# Altium schematic symbol library Fu的原理图库.SchLib: 44 symbols
Pins are listed as number, name and electrical type; pins without a type are passive.

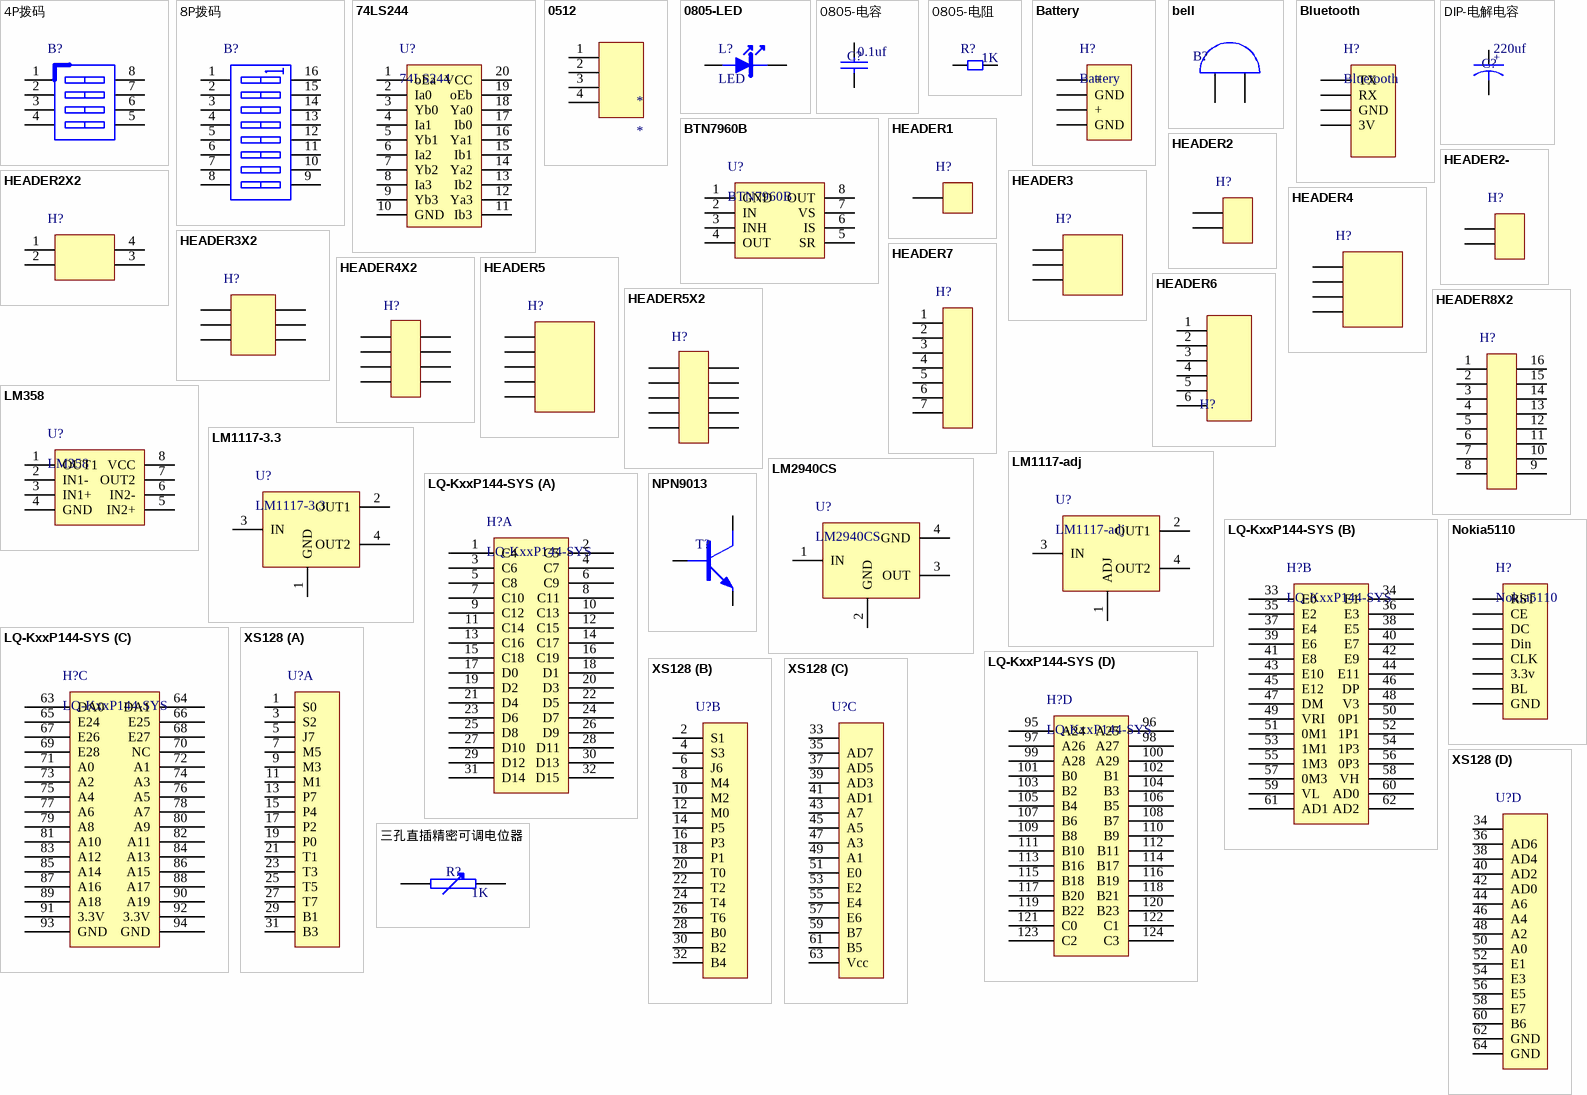
[diagram p0: symbols 4P拨码 to 三孔直插精密可调电位器]

## 4P拨码
designator B?  (value not drawn)
footprint 4P拨码
pins: 1, 2, 3, 4, 5, 6, 7, 8

## 8P拨码
designator B?  (value not drawn)
DIP
footprint 8P拨码
pins: 1 A1, 2 A2, 3 A3, 4 A4, 5 A5, 6 A6, 7 A7, 8 A8, 9 B8, 10 B7, 11 B6, 12 B5, 13 B4, 14 B3, 15 B2, 16 B1

## 74LS244
designator U?
footprint SN74LS244
pins: 1 oEa, 2 Ia0, 3 Yb0, 4 Ia1, 5 Yb1, 6 Ia2, 7 Yb2, 8 Ia3, 9 Yb3, 10 GND, 11 Ib3, 12 Ya3, 13 Ib2, 14 Ya2, 15 Ib1, 16 Ya1, 17 Ib0, 18 Ya0, 19 oEb, 20 VCC

## 0512
designator *
pins: 1, 2 HL, 3 HM, 4 HR

## 0805-LED
designator L?, comment LED
footprint 二极管0805
pins: 1, 2

## 0805-电容
designator C?, comment value 0.1uf  (hidden comment: CAP)
footprint 0805
pins: 1, 2

## 0805-电阻
designator R?, comment value 1K  (hidden comment: RES)
footprint 0805
pins: 1, 2

## Battery
designator H?
footprint Battery
pins: 1 +, 2 GND, 3 +, 4 GND

## bell
designator B?, comment BELL  (value not drawn)
直插蜂鸣器
footprint bell
pins: 1, 2

## Bluetooth
designator H?
footprint Bluetooth
pins: 1 TX, 2 RX, 3 GND, 4 3V

## BTN7960B
designator U?
footprint BTN7960B
pins: 1 GND, 2 IN, 3 INH, 4 OUT, 5 SR, 6 IS, 7 VS, 8 OUT

## DIP-电解电容
designator C?, comment value 220uf  (hidden comment: PCAP)
大容量，耐压值16V
footprint 电解电容器
footprint 钽电容
pins: 1, 2
text: +

## HEADER1
designator H?  (value not drawn)
footprint HEADER1
pins: 1

## HEADER2
designator H?  (value not drawn)
footprint HEADER2
pins: 1, 2

## HEADER2-
designator H?  (value not drawn)
footprint HEADER2-
pins: 1, 2

## HEADER2X2
designator H?  (value not drawn)
footprint HEADER2X2
pins: 1, 2, 3, 4

## HEADER3
designator H?, comment HEADER  (value not drawn)
footprint 干簧管
pins: 1, 2, 3

## HEADER3X2
designator H?  (value not drawn)
HEADER3X2
footprint HEADER3X2
pins: 1, 2, 3, 4, 5, 6

## HEADER4
designator H?, comment HEADER  (value not drawn)
footprint HEADER4
pins: 1, 2, 3, 4

## HEADER4X2
designator H?  (value not drawn)
footprint HEADER4X2
pins: 1, 2, 3, 4, 5, 6, 7, 8

## HEADER5
designator H?, comment HEADER  (value not drawn)
CCD接口
footprint HEADER5
pins: 1, 2, 3, 4, 5

## HEADER5X2
designator H?  (value not drawn)
footprint HEADER5X2
pins: 1, 2, 3, 4, 5, 6, 7, 8, 9, 10

## HEADER6
designator H?  (value not drawn)
电感接口，蓝牙最全接口
footprint HEADER6
pins: 1, 2 HL, 3 HM, 4 HR, 5 VL, 6 VR

## HEADER7
designator H?  (value not drawn)
footprint HEADER7 (OLED插槽)
pins: 1, 2, 3, 4, 5, 6, 7

## HEADER8X2
designator H?  (value not drawn)
footprint HEADER8X2
pins: 1, 2, 3, 4, 5, 6, 7, 8, 9, 10, 11, 12, 13, 14, 15, 16

## LM358
designator U?
footprint LM358
pins: 1 OUT1, 2 IN1-, 3 IN1+, 4 GND, 5 IN2+, 6 IN2-, 7 OUT2, 8 VCC

## LM1117-3.3
designator U?
SOT223
footprint LM1117 (SOT223)
pins: 1 GND, 2 OUT1, 3 IN, 4 OUT2

## LM1117-adj
designator U?
SOT-223
footprint LM1117 (SOT223)
pins: 1 ADJ, 2 OUT1, 3 IN, 4 OUT2

## LM2940CS
designator U?
TO-263
footprint LM2940CS
pins: 1 IN, 2 GND, 3 OUT, 4 GND

## LQ-KxxP144-SYS
designator H?
header15x2; 厂家: 龙丘
footprint LQ-KxxP144-SYS
part A pins: 1 C4, 2 C5, 3 C6, 4 C7, 5 C8, 6 C9, 7 C10, 8 C11, 9 C12, 10 C13, 11 C14, 12 C15, 13 C16, 14 C17, 15 C18, 16 C19, 17 D0, 18 D1, 19 D2, 20 D3, 21 D4, 22 D5, 23 D6, 24 D7, 25 D8, 26 D9, 27 D10, 28 D11, 29 D12, 30 D13, 31 D14, 32 D15
part B pins: 33 E0, 34 E1, 35 E2, 36 E3, 37 E4, 38 E5, 39 E6, 40 E7, 41 E8, 42 E9, 43 E10, 44 E11, 45 E12, 46 DP, 47 DM, 48 V3, 49 VRI, 50 0P1, 51 0M1, 52 1P1, 53 1M1, 54 1P3, 55 1M3, 56 0P3, 57 0M3, 58 VH, 59 VL, 60 AD0, 61 AD1, 62 AD2
part C pins: 63 DA0, 64 DA1, 65 E24, 66 E25, 67 E26, 68 E27, 69 E28, 70 NC, 71 A0, 72 A1, 73 A2, 74 A3, 75 A4, 76 A5, 77 A6, 78 A7, 79 A8, 80 A9, 81 A10, 82 A11, 83 A12, 84 A13, 85 A14, 86 A15, 87 A16, 88 A17, 89 A18, 90 A19, 91 3.3V, 92 3.3V, 93 GND, 94 GND
part D pins: 95 A24, 96 A25, 97 A26, 98 A27, 99 A28, 100 A29, 101 B0, 102 B1, 103 B2, 104 B3, 105 B4, 106 B5, 107 B6, 108 B7, 109 B8, 110 B9, 111 B10, 112 B11, 113 B16, 114 B17, 115 B18, 116 B19, 117 B20, 118 B21, 119 B22, 120 B23, 121 C0, 122 C1, 123 C2, 124 C3

## Nokia5110
designator H?
footprint HEADER8
footprint Model Name (Footprint not found)
pins: 1 RST, 2 CE, 3 DC, 4 Din, 5 CLK, 6 3.3v, 7 BL, 8 GND

## NPN9013
designator T?, comment NPN三极管  (value not drawn)
9013
footprint NPN-9013 (SOT23, 3-Leads, Body 3.0x2.6mm (max), Pitch 0.95mm, IPC Medium Density)
pins: 1 B, 2 E, 3 C

## XS128
designator U?  (value not drawn)
footprint XS128
part A pins: 1 S0, 3 S2, 5 J7, 7 M5, 9 M3, 11 M1, 13 P7, 15 P4, 17 P2, 19 P0, 21 T1, 23 T3, 25 T5, 27 T7, 29 B1, 31 B3
part B pins: 2 S1, 4 S3, 6 J6, 8 M4, 10 M2, 12 M0, 14 P5, 16 P3, 18 P1, 20 T0, 22 T2, 24 T4, 26 T6, 28 B0, 30 B2, 32 B4
part C pins: 33 17, 35 AD7, 37 AD5, 39 AD3, 41 AD1, 43 A7, 45 A5, 47 A3, 49 A1, 51 E0, 53 E2, 55 E4, 57 E6, 59 B7, 61 B5, 63 Vcc
part D pins: 34 64, 36 AD6, 38 AD4, 40 AD2, 42 AD0, 44 A6, 46 A4, 48 A2, 50 A0, 52 E1, 54 E3, 56 E5, 58 E7, 60 B6, 62 GND, 64 GND

## 三孔直插精密可调电位器
designator R?, comment value 1K  (hidden comment: 电位器)
footprint 三孔直插精密可调电位器
pins: 1, 2, 3 NC hidden

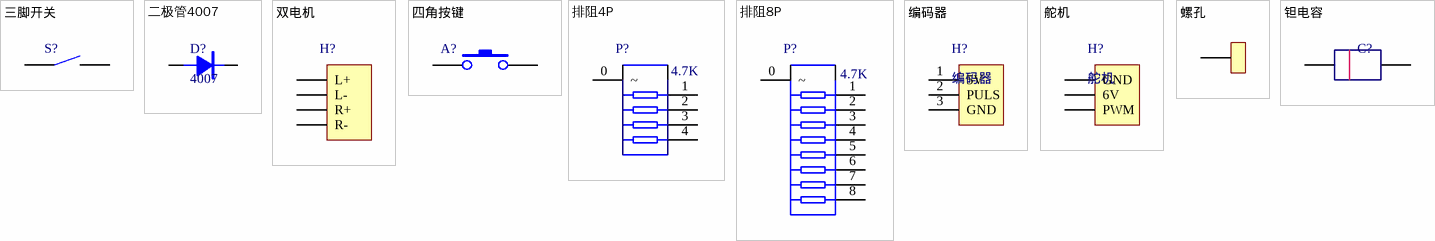
[diagram p1: symbols 三脚开关 to 钽电容]

## 三脚开关
designator S?  (value not drawn)
footprint 三脚开关
pins: 1 NC hidden, 2 COMMON, 3 ON

## 二极管4007
designator D?, comment 4007
footprint IN4007 M7
pins: 1, 2

## 双电机
designator H?  (value not drawn)
footprint 双电机
pins: 1 L+, 2 L-, 3 R+, 4 R-

## 四角按键
designator A?  (value not drawn)
footprint 四角按键
pins: 1, 2, 3 hidden, 4 hidden

## 排阻4P
designator P?  value 4.7K  (hidden comment: 排阻4P)
footprint 4P排阻
pins: 0 ~, 1, 2, 3, 4

## 排阻8P
designator P?, comment value 4.7K  (hidden comment: 8P排阻)
footprint 8P排阻
pins: 0 ~, 1, 2, 3, 4, 5, 6, 7, 8

## 编码器
designator H?
footprint 编码器
pins: 1 5V, 2 PULS, 3 GND

## 舵机
designator H?
footprint 舵机
pins: 1 GND, 2 6V, 3 PWM

## 螺孔
designator K?  (value not drawn)
footprint 螺孔
pins: 0

## 钽电容
designator C?  (value not drawn)
footprint 钽电容
pins: + 1, - 2